# Altium footprint library 4116.4-3.PcbLib: 1 footprints
Each footprint in its own frame and in the unit in brackets; x right, y up, seen from the top. Pads: shape width x height; smd on the part's side, far side on the other; paste and mask are expansions set on the pad; w line width, h text height; cw(c..) or ccw(c..) is an arc to the next point about the centre after c.
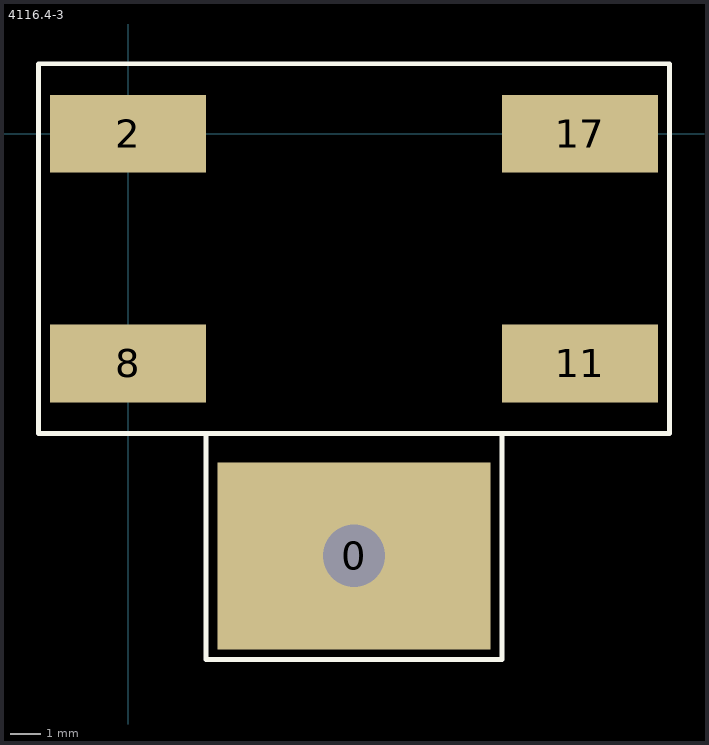
[diagram p0: the footprint, top view; thin cyan lines are the x and y axes]

## 4116.4-3 [mil]
pads (5):
  rect 350x240 hole 80: 0(290,-542)
  rect 200x100 smd: 2(0,0) 8(0,-295) 11(580,-295) 17(580,0)
TopOverlay:
  lines w6: 100,-385 100,-675 480,-675 480,-385 ; -115,-385 -115,90 695,90 695,-385 -115,-385